# EAGLE library part SBDBT5V (library SBDBT)
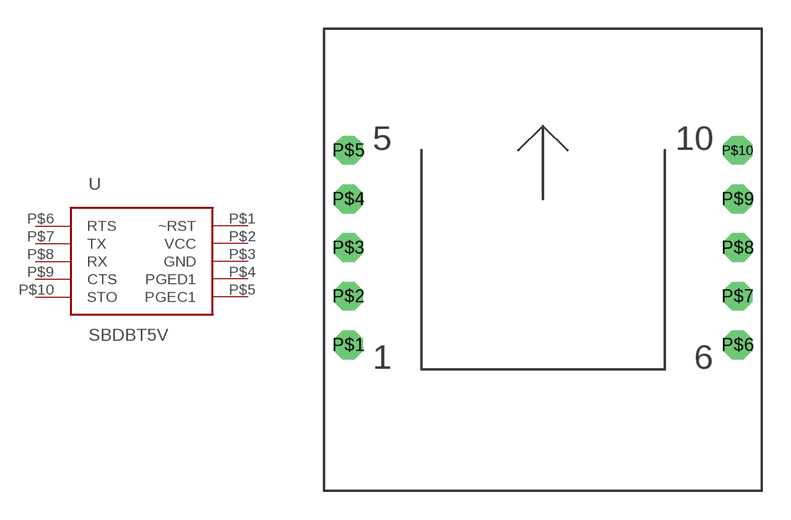
[diagram p0: symbol with the pads of SBDBT; footprint SBDBT]

Designator prefix -

## SBDBT5V  [SBDBT]
P$1  ~RST
P$2  VCC
P$3  GND
P$4  PGED1
P$5  PGEC1
P$6  RTS
P$7  TX
P$8  RX
P$9  CTS
P$10  STO

## Footprint SBDBT (pad centres in mm)
drill 1 octagon: P$1 -10.16,-5.08; P$2 -10.16,-2.54; P$3 -10.16,0; P$4 -10.16,2.54; P$5 -10.16,5.08; P$6 10.16,-5.08; P$7 10.16,-2.54; P$8 10.16,0; P$9 10.16,2.54; P$10 10.16,5.08